# EAGLE library part 74HC4067PW (library HyTechDevices)
16:1 Analog Multiplexer Datasheet <https://assets.nexperia.com/documents/data-sheet/74HC_HCT4067.pdf>
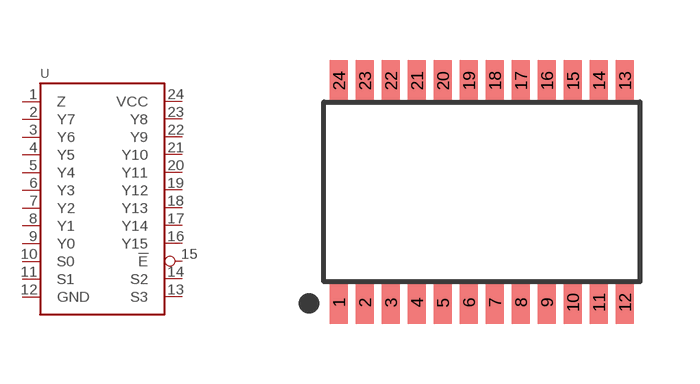
[diagram p83: symbol with the pads of TSSOP-24; footprint TSSOP-24]

Designator prefix -

## 74HC4067PW (DKPN: 1727-2042-1-ND; MANUFACTURER: Nexperia USA Inc.; MOPN: 771-74HC4067PW-T; MPN: 74HC4067PW,118)  [TSSOP-24]
1  Z
2  Y7
3  Y6
4  Y5
5  Y4
6  Y3
7  Y2
8  Y1
9  Y0
10  S0  in
11  S1  in
12  GND  pwr
13  S3  in
14  S2  in
15  !E  in
16  Y15
17  Y14
18  Y13
19  Y12
20  Y11
21  Y10
22  Y9
23  Y8
24  VCC  pwr

## Footprint TSSOP-24 (pad centres in mm)
TSSOP-24 Adapted from TSSOP-20 Datasheet <https://www.analog.com/media/en/package-pcb-resources/package/pkg_pdf/ltc-legacy-tssop/TSSOP_20_05-08-1650.pdf> and TSSOP-24 Exposed Pad <https://www.analog.com/media/en/package-pcb-resources/package/pkg_pdf/ltc-legacy-tssop/TSSOP_24_05-08-1771.pdf>
smd 0.45 x 1.05: 1 -3.575,-2.775; 2 -2.925,-2.775; 3 -2.275,-2.775; 4 -1.625,-2.775; 5 -0.975,-2.775; 6 -0.325,-2.775; 7 0.325,-2.775; 8 0.975,-2.775; 9 1.625,-2.775; 10 2.275,-2.775; 11 2.925,-2.775; 12 3.575,-2.775; 13 3.575,2.775; 14 2.925,2.775; 15 2.275,2.775; 16 1.625,2.775; 17 0.975,2.775; 18 0.325,2.775; 19 -0.325,2.775; 20 -0.975,2.775; 21 -1.625,2.775; 22 -2.275,2.775; 23 -2.925,2.775; 24 -3.575,2.775